# EAGLE library part EM-506 (library SparkFun-GPS)
USGlobalSat EM-506 High Performance GPS Module EM-506 GPS module features high sensitivity, low power and ultra small form factor. This GPS module is powered by SiRF Star IV, it can provide you with superior sensitivity and performance even in urban canyon and dense foliage environment. With SiRF CGEE (Client Generated Extended Ephemeris) technology, it predicts satellite positions for up to 3 days and delivers CGEE-start time of less than 15 seconds under most conditions, without any network assistance. Besides, MicroPower Mode allows GPS module to stay in a hot-start condition nearly continuously while consuming very little power. SparkFun Products GPS Receiver - EM-506 (48 Channel) <https://www.sparkfun.com/products/12751> (GPS-12751)
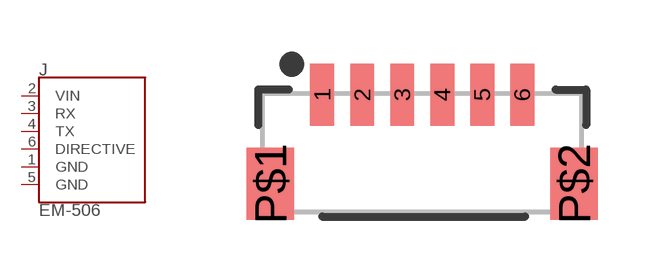
[diagram p14: symbol with the pads of JST-6PIN-1MM; footprint JST-6PIN-1MM]

Designator prefix J

## EM-506-VERTICAL (PROD_ID: CONN-08249)  [JST-6PIN-1MM]
1  GND
2  VIN
3  RX
4  TX
5  GND
6  DIRECTIVE

## Footprint JST-6PIN-1MM (pad centres in mm)
6-Pin Vertical JST Connector 1.0mm pitch JST-SH type Common interface for SparkFun GPS modules. Datasheet <http://www.sparkfun.com/datasheets/GPS/EM406-SMDConnector-eSH.pdf>
smd 0.6 x 1.55: 1 -2.5,1.45; 2 -1.5,1.45; 3 -0.5,1.45; 4 0.5,1.45; 5 1.5,1.45; 6 2.5,1.45
smd 1.2 x 1.8: P$1 -3.8,-0.775; P$2 3.8,-0.775